# Altium integrated library Vishay Draloric Ceramic Disc Capacitor.IntLib: 519 symbols (part 2 of 8)
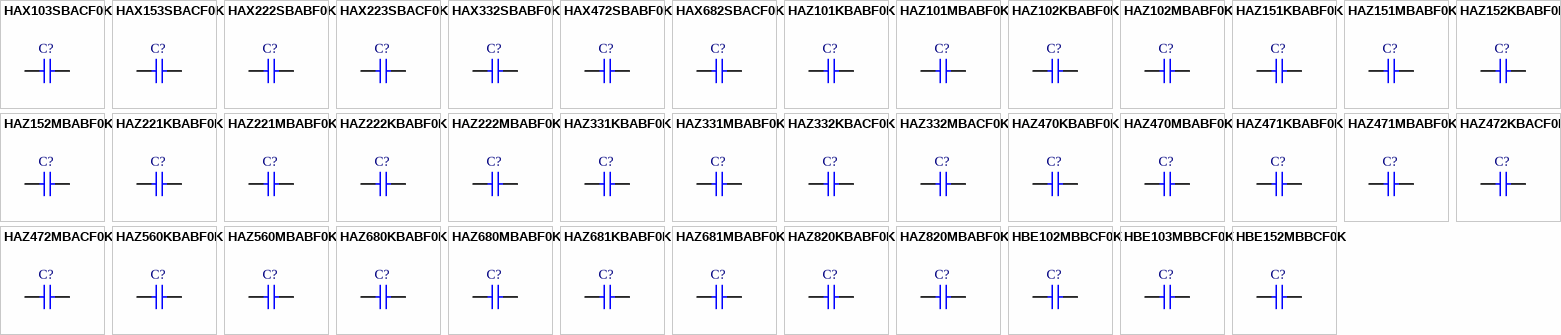
[diagram p13: symbols HAX103SBACF0K to HBE152MBBCF0K]

## HAZ681MBABF0K
designator C?
Ceramic High Voltage Disc Capacitor, Class 2: 680pF 1kV K 2000; Note: See Datasheet for other lead types & tolerances; Published: 17-Dec-2003; DatasheetDocument: 11-Dec-2001; PackageDocument: 2-Aug-2001; PackageReference: CAPRD5-7X3; Publisher: Altium Limited; ComponentLink1Description: Manufacturer Link; ComponentLink1URL: http://www.vishay.com/; ComponentLink2Description: Datasheet; ComponentLink2URL: http://www.vishay.com/docs/22161/h.pdf; Value: 680pF
footprint CAPRD5-7X3 (Capacitor, Ceramic, Thru-Hole, Disc; Body 7 x 3 mm (LxW max) Pin Spacing 5 mm (typ))
simulation model CAP (Capacitor)
signal-integrity model Cap
pins: 1, 2

## HAZ820KBABF0K
designator C?
Ceramic High Voltage Disc Capacitor, Class 2: 82pF 1kV K 2000; Note: See Datasheet for other lead types & tolerances; Published: 17-Dec-2003; DatasheetDocument: 11-Dec-2001; PackageDocument: 2-Aug-2001; PackageReference: CAPRD5-7X3; Publisher: Altium Limited; ComponentLink1Description: Manufacturer Link; ComponentLink1URL: http://www.vishay.com/; ComponentLink2Description: Datasheet; ComponentLink2URL: http://www.vishay.com/docs/22161/h.pdf; Value: 82pF
footprint CAPRD5-7X3 (Capacitor, Ceramic, Thru-Hole, Disc; Body 7 x 3 mm (LxW max) Pin Spacing 5 mm (typ))
simulation model CAP (Capacitor)
signal-integrity model Cap
pins: 1, 2

## HAZ820MBABF0K
designator C?
Ceramic High Voltage Disc Capacitor, Class 2: 82pF 1kV K 2000; Note: See Datasheet for other lead types & tolerances; Published: 17-Dec-2003; DatasheetDocument: 11-Dec-2001; PackageDocument: 2-Aug-2001; PackageReference: CAPRD5-7X3; Publisher: Altium Limited; ComponentLink1Description: Manufacturer Link; ComponentLink1URL: http://www.vishay.com/; ComponentLink2Description: Datasheet; ComponentLink2URL: http://www.vishay.com/docs/22161/h.pdf; Value: 82pF
footprint CAPRD5-7X3 (Capacitor, Ceramic, Thru-Hole, Disc; Body 7 x 3 mm (LxW max) Pin Spacing 5 mm (typ))
simulation model CAP (Capacitor)
signal-integrity model Cap
pins: 1, 2

## HBE102MBBCF0K
designator C?
Ceramic High Voltage Disc Capacitor, Class 2: 1000pF 2kV K 6000; Note: See Datasheet for other lead types; Value: 1nF; Published: 17-Dec-2003; DatasheetDocument: 11-Dec-2001; PackageDocument: 2-Aug-2001; PackageReference: CAPRD7.5-7X3; Publisher: Altium Limited; ComponentLink1Description: Manufacturer Link; ComponentLink1URL: http://www.vishay.com/; ComponentLink2Description: Datasheet; ComponentLink2URL: http://www.vishay.com/docs/22161/h.pdf
footprint CAPRD7.5-7X3 (Capacitor, Ceramic, Thru-Hole, Disc; Body 7 x 3 mm (LxW max) Pin Spacing 7.5 mm (typ))
simulation model CAP (Capacitor)
signal-integrity model Cap
pins: 1, 2

## HBE103MBBCF0K
designator C?
Ceramic High Voltage Disc Capacitor, Class 2: 10nF 2kV K 6000; Note: See Datasheet for other lead types; Published: 17-Dec-2003; DatasheetDocument: 11-Dec-2001; PackageDocument: 2-Aug-2001; PackageReference: CAPRD7.5-17X3A; Publisher: Altium Limited; ComponentLink1Description: Manufacturer Link; ComponentLink1URL: http://www.vishay.com/; ComponentLink2Description: Datasheet; ComponentLink2URL: http://www.vishay.com/docs/22161/h.pdf; Value: 10nF
footprint CAPRD7.5-17X3A (Capacitor, Ceramic, Thru-Hole, Disc; Body 17 x 3 mm (LxW max) Pin Spacing 7.5 mm (typ))
simulation model CAP (Capacitor)
signal-integrity model Cap
pins: 1, 2

## HBE152MBBCF0K
designator C?
Ceramic High Voltage Disc Capacitor, Class 2: 1500pF 2kV K 6000; Note: See Datasheet for other lead types; Value: 1.5nF; Published: 17-Dec-2003; DatasheetDocument: 11-Dec-2001; PackageDocument: 2-Aug-2001; PackageReference: CAPRD7.5-9X3; Publisher: Altium Limited; ComponentLink1Description: Manufacturer Link; ComponentLink1URL: http://www.vishay.com/; ComponentLink2Description: Datasheet; ComponentLink2URL: http://www.vishay.com/docs/22161/h.pdf
footprint CAPRD7.5-9X3 (Capacitor, Ceramic, Thru-Hole, Disc; Body 9 x 3 mm (LxW max) Pin Spacing 7.5 mm (typ))
simulation model CAP (Capacitor)
signal-integrity model Cap
pins: 1, 2

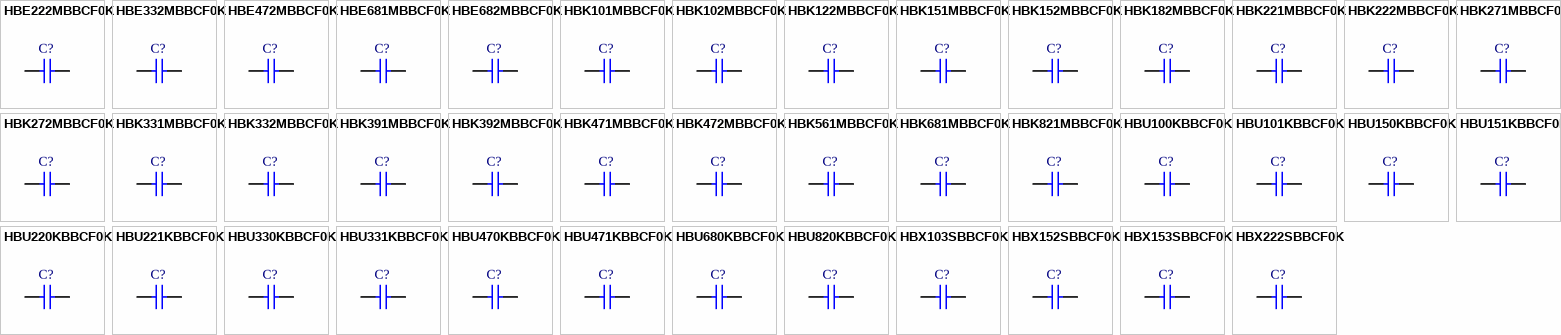
[diagram p2: symbols HBE222MBBCF0K to HBX222SBBCF0K]

## HBE222MBBCF0K
designator C?
Ceramic High Voltage Disc Capacitor, Class 2: 2200pF 2kV K 6000; Note: See Datasheet for other lead types; Value: 2.2nF; Published: 17-Dec-2003; DatasheetDocument: 11-Dec-2001; PackageDocument: 2-Aug-2001; PackageReference: CAPRD7.5-9X3; Publisher: Altium Limited; ComponentLink1Description: Manufacturer Link; ComponentLink1URL: http://www.vishay.com/; ComponentLink2Description: Datasheet; ComponentLink2URL: http://www.vishay.com/docs/22161/h.pdf
footprint CAPRD7.5-9X3 (Capacitor, Ceramic, Thru-Hole, Disc; Body 9 x 3 mm (LxW max) Pin Spacing 7.5 mm (typ))
simulation model CAP (Capacitor)
signal-integrity model Cap
pins: 1, 2

## HBE332MBBCF0K
designator C?
Ceramic High Voltage Disc Capacitor, Class 2: 3300pF 2kV K 6000; Note: See Datasheet for other lead types; Value: 3.3nF; Published: 17-Dec-2003; DatasheetDocument: 11-Dec-2001; PackageDocument: 2-Aug-2001; PackageReference: CAPRD7.5-11X3; Publisher: Altium Limited; ComponentLink1Description: Manufacturer Link; ComponentLink1URL: http://www.vishay.com/; ComponentLink2Description: Datasheet; ComponentLink2URL: http://www.vishay.com/docs/22161/h.pdf
footprint CAPRD7.5-11X3 (Capacitor, Ceramic, Thru-Hole, Disc; Body 11 x 3 mm (LxW max) Pin Spacing 7.5 mm (typ))
simulation model CAP (Capacitor)
signal-integrity model Cap
pins: 1, 2

## HBE472MBBCF0K
designator C?
Ceramic High Voltage Disc Capacitor, Class 2: 4700pF 2kV K 6000; Note: See Datasheet for other lead types; Value: 4.7nF; Published: 17-Dec-2003; DatasheetDocument: 11-Dec-2001; PackageDocument: 2-Aug-2001; PackageReference: CAPRD7.5-13X3A; Publisher: Altium Limited; ComponentLink1Description: Manufacturer Link; ComponentLink1URL: http://www.vishay.com/; ComponentLink2Description: Datasheet; ComponentLink2URL: http://www.vishay.com/docs/22161/h.pdf
footprint CAPRD7.5-13X3A (Capacitor, Ceramic, Thru-Hole, Disc; Body 13 x 3 mm (LxW max) Pin Spacing 7.5 mm (typ))
simulation model CAP (Capacitor)
signal-integrity model Cap
pins: 1, 2

## HBE681MBBCF0K
designator C?
Ceramic High Voltage Disc Capacitor, Class 2: 680pF 2kV K 6000; Note: See Datasheet for other lead types; Published: 17-Dec-2003; DatasheetDocument: 11-Dec-2001; PackageDocument: 2-Aug-2001; PackageReference: CAPRD7.5-7X3; Publisher: Altium Limited; ComponentLink1Description: Manufacturer Link; ComponentLink1URL: http://www.vishay.com/; ComponentLink2Description: Datasheet; ComponentLink2URL: http://www.vishay.com/docs/22161/h.pdf; Value: 680pF
footprint CAPRD7.5-7X3 (Capacitor, Ceramic, Thru-Hole, Disc; Body 7 x 3 mm (LxW max) Pin Spacing 7.5 mm (typ))
simulation model CAP (Capacitor)
signal-integrity model Cap
pins: 1, 2

## HBE682MBBCF0K
designator C?
Ceramic High Voltage Disc Capacitor, Class 2: 6800pF 2kV K 6000; Note: See Datasheet for other lead types; Value: 6.8nF; Published: 17-Dec-2003; DatasheetDocument: 11-Dec-2001; PackageDocument: 2-Aug-2001; PackageReference: CAPRD7.5-15X3; Publisher: Altium Limited; ComponentLink1Description: Manufacturer Link; ComponentLink1URL: http://www.vishay.com/; ComponentLink2Description: Datasheet; ComponentLink2URL: http://www.vishay.com/docs/22161/h.pdf
footprint CAPRD7.5-15X3 (Capacitor, Ceramic, Thru-Hole, Disc; Body 15 x 3 mm (LxW max) Pin Spacing 7.5 mm (typ))
simulation model CAP (Capacitor)
signal-integrity model Cap
pins: 1, 2

## HBK101MBBCF0K
designator C?
Ceramic Pulse Disc Capacitor, Class 2: 100pF 2kV K 1500; Note: See Datasheet for other lead types & tolerances; Published: 17-Dec-2003; DatasheetDocument: 6-Sep-2001; PackageDocument: 2-Aug-2001; PackageReference: CAPRD7.5-7X5B; Publisher: Altium Limited; ComponentLink1Description: Manufacturer Link; ComponentLink1URL: http://www.vishay.com/; ComponentLink2Description: Datasheet; ComponentLink2URL: http://www.vishay.com/docs/22164/hk.pdf; Value: 100pF
footprint CAPRD7.5-7X5B (Capacitor, Ceramic, Thru-Hole, Disc; Body 7 x 5 mm (LxW max) Pin Spacing 7.5 mm (typ))
simulation model CAP (Capacitor)
signal-integrity model Cap
pins: 1, 2

## HBK102MBBCF0K
designator C?
Ceramic Pulse Disc Capacitor, Class 2: 1000pF 2kV K 1500; Note: See Datasheet for other lead types & tolerances; Value: 1nF; Published: 17-Dec-2003; DatasheetDocument: 6-Sep-2001; PackageDocument: 2-Aug-2001; PackageReference: CAPRD7.5-11X5A; Publisher: Altium Limited; ComponentLink1Description: Manufacturer Link; ComponentLink1URL: http://www.vishay.com/; ComponentLink2Description: Datasheet; ComponentLink2URL: http://www.vishay.com/docs/22164/hk.pdf
footprint CAPRD7.5-11X5A (Capacitor, Ceramic, Thru-Hole, Disc; Body 11 x 5 mm (LxW max) Pin Spacing 7.5 mm (typ))
simulation model CAP (Capacitor)
signal-integrity model Cap
pins: 1, 2

## HBK122MBBCF0K
designator C?
Ceramic Pulse Disc Capacitor, Class 2: 1200pF 2kV K 1500; Note: See Datasheet for other lead types & tolerances; Value: 1.2nF; Published: 17-Dec-2003; DatasheetDocument: 6-Sep-2001; PackageDocument: 2-Aug-2001; PackageReference: CAPRD7.5-11X5A; Publisher: Altium Limited; ComponentLink1Description: Manufacturer Link; ComponentLink1URL: http://www.vishay.com/; ComponentLink2Description: Datasheet; ComponentLink2URL: http://www.vishay.com/docs/22164/hk.pdf
footprint CAPRD7.5-11X5A (Capacitor, Ceramic, Thru-Hole, Disc; Body 11 x 5 mm (LxW max) Pin Spacing 7.5 mm (typ))
simulation model CAP (Capacitor)
signal-integrity model Cap
pins: 1, 2

## HBK151MBBCF0K
designator C?
Ceramic Pulse Disc Capacitor, Class 2: 150pF 2kV K 1500; Note: See Datasheet for other lead types & tolerances; Published: 17-Dec-2003; DatasheetDocument: 6-Sep-2001; PackageDocument: 2-Aug-2001; PackageReference: CAPRD7.5-7X5B; Publisher: Altium Limited; ComponentLink1Description: Manufacturer Link; ComponentLink1URL: http://www.vishay.com/; ComponentLink2Description: Datasheet; ComponentLink2URL: http://www.vishay.com/docs/22164/hk.pdf; Value: 150pF
footprint CAPRD7.5-7X5B (Capacitor, Ceramic, Thru-Hole, Disc; Body 7 x 5 mm (LxW max) Pin Spacing 7.5 mm (typ))
simulation model CAP (Capacitor)
signal-integrity model Cap
pins: 1, 2

## HBK152MBBCF0K
designator C?
Ceramic Pulse Disc Capacitor, Class 2: 1500pF 2kV K 1500; Note: See Datasheet for other lead types & tolerances; Value: 1.5nF; Published: 17-Dec-2003; DatasheetDocument: 6-Sep-2001; PackageDocument: 2-Aug-2001; PackageReference: CAPRD7.5-12.5X5; Publisher: Altium Limited; ComponentLink1Description: Manufacturer Link; ComponentLink1URL: http://www.vishay.com/; ComponentLink2Description: Datasheet; ComponentLink2URL: http://www.vishay.com/docs/22164/hk.pdf
footprint CAPRD7.5-12.5X5 (Capacitor, Ceramic, Thru-Hole, Disc; Body 12.5 x 5 mm (LxW max) Pin Spacing 7.5 mm (typ))
simulation model CAP (Capacitor)
signal-integrity model Cap
pins: 1, 2

## HBK182MBBCF0K
designator C?
Ceramic Pulse Disc Capacitor, Class 2: 1800pF 2kV K 1500; Note: See Datasheet for other lead types & tolerances; Value: 1.8nF; Published: 17-Dec-2003; DatasheetDocument: 6-Sep-2001; PackageDocument: 2-Aug-2001; PackageReference: CAPRD7.5-14.5X5B; Publisher: Altium Limited; ComponentLink1Description: Manufacturer Link; ComponentLink1URL: http://www.vishay.com/; ComponentLink2Description: Datasheet; ComponentLink2URL: http://www.vishay.com/docs/22164/hk.pdf
footprint CAPRD7.5-14.5X5B (Capacitor, Ceramic, Thru-Hole, Disc; Body 14.5 x 5 mm (LxW max) Pin Spacing 7.5 mm (typ))
simulation model CAP (Capacitor)
signal-integrity model Cap
pins: 1, 2

## HBK221MBBCF0K
designator C?
Ceramic Pulse Disc Capacitor, Class 2: 220pF 2kV K 1500; Note: See Datasheet for other lead types & tolerances; Published: 17-Dec-2003; DatasheetDocument: 6-Sep-2001; PackageDocument: 2-Aug-2001; PackageReference: CAPRD7.5-7X5B; Publisher: Altium Limited; ComponentLink1Description: Manufacturer Link; ComponentLink1URL: http://www.vishay.com/; ComponentLink2Description: Datasheet; ComponentLink2URL: http://www.vishay.com/docs/22164/hk.pdf; Value: 220pF
footprint CAPRD7.5-7X5B (Capacitor, Ceramic, Thru-Hole, Disc; Body 7 x 5 mm (LxW max) Pin Spacing 7.5 mm (typ))
simulation model CAP (Capacitor)
signal-integrity model Cap
pins: 1, 2

## HBK222MBBCF0K
designator C?
Ceramic Pulse Disc Capacitor, Class 2: 2200pF 2kV K 1500; Note: See Datasheet for other lead types & tolerances; Value: 2.2nF; Published: 17-Dec-2003; DatasheetDocument: 6-Sep-2001; PackageDocument: 2-Aug-2001; PackageReference: CAPRD7.5-14.5X5B; Publisher: Altium Limited; ComponentLink1Description: Manufacturer Link; ComponentLink1URL: http://www.vishay.com/; ComponentLink2Description: Datasheet; ComponentLink2URL: http://www.vishay.com/docs/22164/hk.pdf
footprint CAPRD7.5-14.5X5B (Capacitor, Ceramic, Thru-Hole, Disc; Body 14.5 x 5 mm (LxW max) Pin Spacing 7.5 mm (typ))
simulation model CAP (Capacitor)
signal-integrity model Cap
pins: 1, 2

## HBK271MBBCF0K
designator C?
Ceramic Pulse Disc Capacitor, Class 2: 270pF 2kV K 1500; Note: See Datasheet for other lead types & tolerances; Published: 17-Dec-2003; DatasheetDocument: 6-Sep-2001; PackageDocument: 2-Aug-2001; PackageReference: CAPRD7.5-7X5B; Publisher: Altium Limited; ComponentLink1Description: Manufacturer Link; ComponentLink1URL: http://www.vishay.com/; ComponentLink2Description: Datasheet; ComponentLink2URL: http://www.vishay.com/docs/22164/hk.pdf; Value: 270pF
footprint CAPRD7.5-7X5B (Capacitor, Ceramic, Thru-Hole, Disc; Body 7 x 5 mm (LxW max) Pin Spacing 7.5 mm (typ))
simulation model CAP (Capacitor)
signal-integrity model Cap
pins: 1, 2

## HBK272MBBCF0K
designator C?
Ceramic Pulse Disc Capacitor, Class 2: 2700pF 2kV K 1500; Note: See Datasheet for other lead types & tolerances; Value: 2.7nF; Published: 17-Dec-2003; DatasheetDocument: 6-Sep-2001; PackageDocument: 2-Aug-2001; PackageReference: CAPRD7.5-16.5X5A; Publisher: Altium Limited; ComponentLink1Description: Manufacturer Link; ComponentLink1URL: http://www.vishay.com/; ComponentLink2Description: Datasheet; ComponentLink2URL: http://www.vishay.com/docs/22164/hk.pdf
footprint CAPRD7.5-16.5X5A (Capacitor, Ceramic, Thru-Hole, Disc; Body 16.5 x 5 mm (LxW max) Pin Spacing 7.5 mm (typ))
simulation model CAP (Capacitor)
signal-integrity model Cap
pins: 1, 2

## HBK331MBBCF0K
designator C?
Ceramic Pulse Disc Capacitor, Class 2: 330pF 2kV K 1500; Note: See Datasheet for other lead types & tolerances; Published: 17-Dec-2003; DatasheetDocument: 6-Sep-2001; PackageDocument: 2-Aug-2001; PackageReference: CAPRD7.5-7X5B; Publisher: Altium Limited; ComponentLink1Description: Manufacturer Link; ComponentLink1URL: http://www.vishay.com/; ComponentLink2Description: Datasheet; ComponentLink2URL: http://www.vishay.com/docs/22164/hk.pdf; Value: 330pF
footprint CAPRD7.5-7X5B (Capacitor, Ceramic, Thru-Hole, Disc; Body 7 x 5 mm (LxW max) Pin Spacing 7.5 mm (typ))
simulation model CAP (Capacitor)
signal-integrity model Cap
pins: 1, 2

## HBK332MBBCF0K
designator C?
Ceramic Pulse Disc Capacitor, Class 2: 3300pF 2kV K 1500; Note: See Datasheet for other lead types & tolerances; Value: 3.3nF; Published: 17-Dec-2003; DatasheetDocument: 6-Sep-2001; PackageDocument: 2-Aug-2001; PackageReference: CAPRD7.5-17.5X5; Publisher: Altium Limited; ComponentLink1Description: Manufacturer Link; ComponentLink1URL: http://www.vishay.com/; ComponentLink2Description: Datasheet; ComponentLink2URL: http://www.vishay.com/docs/22164/hk.pdf
footprint CAPRD7.5-17.5X5 (Capacitor, Ceramic, Thru-Hole, Disc; Body 17.5 x 5 mm (LxW max) Pin Spacing 7.5 mm (typ))
simulation model CAP (Capacitor)
signal-integrity model Cap
pins: 1, 2

## HBK391MBBCF0K
designator C?
Ceramic Pulse Disc Capacitor, Class 2: 390pF 2kV K 1500; Note: See Datasheet for other lead types & tolerances; Published: 17-Dec-2003; DatasheetDocument: 6-Sep-2001; PackageDocument: 2-Aug-2001; PackageReference: CAPRD7.5-8X5A; Publisher: Altium Limited; ComponentLink1Description: Manufacturer Link; ComponentLink1URL: http://www.vishay.com/; ComponentLink2Description: Datasheet; ComponentLink2URL: http://www.vishay.com/docs/22164/hk.pdf; Value: 390pF
footprint CAPRD7.5-8X5A (Capacitor, Ceramic, Thru-Hole, Disc; Body 8 x 5 mm (LxW max) Pin Spacing 7.5 mm (typ))
simulation model CAP (Capacitor)
signal-integrity model Cap
pins: 1, 2

## HBK392MBBCF0K
designator C?
Ceramic Pulse Disc Capacitor, Class 2: 3900pF 2kV K 1500; Note: See Datasheet for other lead types & tolerances; Value: 3.9nF; Published: 17-Dec-2003; DatasheetDocument: 6-Sep-2001; PackageDocument: 2-Aug-2001; PackageReference: CAPRD7.5-19.5X5; Publisher: Altium Limited; ComponentLink1Description: Manufacturer Link; ComponentLink1URL: http://www.vishay.com/; ComponentLink2Description: Datasheet; ComponentLink2URL: http://www.vishay.com/docs/22164/hk.pdf
footprint CAPRD7.5-19.5X5 (Capacitor, Ceramic, Thru-Hole, Disc; Body 19.5 x 5 mm (LxW max) Pin Spacing 7.5 mm (typ))
simulation model CAP (Capacitor)
signal-integrity model Cap
pins: 1, 2

## HBK471MBBCF0K
designator C?
Ceramic Pulse Disc Capacitor, Class 2: 470pF 2kV K 1500; Note: See Datasheet for other lead types & tolerances; Published: 17-Dec-2003; DatasheetDocument: 6-Sep-2001; PackageDocument: 2-Aug-2001; PackageReference: CAPRD7.5-8X5A; Publisher: Altium Limited; ComponentLink1Description: Manufacturer Link; ComponentLink1URL: http://www.vishay.com/; ComponentLink2Description: Datasheet; ComponentLink2URL: http://www.vishay.com/docs/22164/hk.pdf; Value: 470pF
footprint CAPRD7.5-8X5A (Capacitor, Ceramic, Thru-Hole, Disc; Body 8 x 5 mm (LxW max) Pin Spacing 7.5 mm (typ))
simulation model CAP (Capacitor)
signal-integrity model Cap
pins: 1, 2

## HBK472MBBCF0K
designator C?
Ceramic Pulse Disc Capacitor, Class 2: 4700pF 2kV K 1500; Note: See Datasheet for other lead types & tolerances; Value: 4.7nF; Published: 17-Dec-2003; DatasheetDocument: 6-Sep-2001; PackageDocument: 2-Aug-2001; PackageReference: CAPRD7.5-25X5; Publisher: Altium Limited; ComponentLink1Description: Manufacturer Link; ComponentLink1URL: http://www.vishay.com/; ComponentLink2Description: Datasheet; ComponentLink2URL: http://www.vishay.com/docs/22164/hk.pdf
footprint CAPRD7.5-25X5 (Capacitor, Ceramic, Thru-Hole, Disc; Body 25 x 5 mm (LxW max) Pin Spacing 7.5 mm (typ))
simulation model CAP (Capacitor)
signal-integrity model Cap
pins: 1, 2

## HBK561MBBCF0K
designator C?
Ceramic Pulse Disc Capacitor, Class 2: 560pF 2kV K 1500; Note: See Datasheet for other lead types & tolerances; Published: 17-Dec-2003; DatasheetDocument: 6-Sep-2001; PackageDocument: 2-Aug-2001; PackageReference: CAPRD7.5-9X5D; Publisher: Altium Limited; ComponentLink1Description: Manufacturer Link; ComponentLink1URL: http://www.vishay.com/; ComponentLink2Description: Datasheet; ComponentLink2URL: http://www.vishay.com/docs/22164/hk.pdf; Value: 560pF
footprint CAPRD7.5-9X5D (Capacitor, Ceramic, Thru-Hole, Disc; Body 9 x 5 mm (LxW max) Pin Spacing 7.5 mm (typ))
simulation model CAP (Capacitor)
signal-integrity model Cap
pins: 1, 2

## HBK681MBBCF0K
designator C?
Ceramic Pulse Disc Capacitor, Class 2: 680pF 2kV K 1500; Note: See Datasheet for other lead types & tolerances; Published: 17-Dec-2003; DatasheetDocument: 6-Sep-2001; PackageDocument: 2-Aug-2001; PackageReference: CAPRD7.5-9X5D; Publisher: Altium Limited; ComponentLink1Description: Manufacturer Link; ComponentLink1URL: http://www.vishay.com/; ComponentLink2Description: Datasheet; ComponentLink2URL: http://www.vishay.com/docs/22164/hk.pdf; Value: 680pF
footprint CAPRD7.5-9X5D (Capacitor, Ceramic, Thru-Hole, Disc; Body 9 x 5 mm (LxW max) Pin Spacing 7.5 mm (typ))
simulation model CAP (Capacitor)
signal-integrity model Cap
pins: 1, 2

## HBK821MBBCF0K
designator C?
Ceramic Pulse Disc Capacitor, Class 2: 820pF 2kV K 1500; Note: See Datasheet for other lead types & tolerances; Published: 17-Dec-2003; DatasheetDocument: 6-Sep-2001; PackageDocument: 2-Aug-2001; PackageReference: CAPRD7.5-10X5A; Publisher: Altium Limited; ComponentLink1Description: Manufacturer Link; ComponentLink1URL: http://www.vishay.com/; ComponentLink2Description: Datasheet; ComponentLink2URL: http://www.vishay.com/docs/22164/hk.pdf; Value: 820pF
footprint CAPRD7.5-10X5A (Capacitor, Ceramic, Thru-Hole, Disc; Body 10 x 5 mm (LxW max) Pin Spacing 7.5 mm (typ))
simulation model CAP (Capacitor)
signal-integrity model Cap
pins: 1, 2

## HBU100KBBCF0K
designator C?
Ceramic High Voltage Disc Capacitor, Class 1: 10pF, 2kV, N 750; Note: See Datasheet for other lead types; Published: 17-Dec-2003; DatasheetDocument: 2-Aug-2001; PackageDocument: 2-Aug-2001; PackageReference: CAPRD7.5-7X4; Publisher: Altium Limited; ComponentLink1Description: Manufacturer Link; ComponentLink1URL: http://www.vishay.com/; ComponentLink2Description: Datasheet; ComponentLink2URL: http://www.vishay.com/docs/22114/hu.pdf; Value: 10pF
footprint CAPRD7.5-7X4 (Capacitor, Ceramic, Thru-Hole, Disc; Body 7 x 4 mm (LxW max) Pin Spacing 7.5 mm (typ))
simulation model CAP (Capacitor)
signal-integrity model Cap
pins: 1, 2

## HBU101KBBCF0K
designator C?
Ceramic High Voltage Disc Capacitor, Class 1: 100pF, 2kV, N 750; Note: See Datasheet for other lead types; Published: 17-Dec-2003; DatasheetDocument: 2-Aug-2001; PackageDocument: 2-Aug-2001; PackageReference: CAPRD7.5-10X4.2; Publisher: Altium Limited; ComponentLink1Description: Manufacturer Link; ComponentLink1URL: http://www.vishay.com/; ComponentLink2Description: Datasheet; ComponentLink2URL: http://www.vishay.com/docs/22114/hu.pdf; Value: 100pF
footprint CAPRD7.5-10X4.2 (Capacitor, Ceramic, Thru-Hole, Disc; Body 10 x 4.2 mm (LxW max) Pin Spacing 7.5 mm (typ))
simulation model CAP (Capacitor)
signal-integrity model Cap
pins: 1, 2

## HBU150KBBCF0K
designator C?
Ceramic High Voltage Disc Capacitor, Class 1: 15pF, 2kV, N 750; Note: See Datasheet for other lead types; Published: 17-Dec-2003; DatasheetDocument: 2-Aug-2001; PackageDocument: 2-Aug-2001; PackageReference: CAPRD7.5-7X4; Publisher: Altium Limited; ComponentLink1Description: Manufacturer Link; ComponentLink1URL: http://www.vishay.com/; ComponentLink2Description: Datasheet; ComponentLink2URL: http://www.vishay.com/docs/22114/hu.pdf; Value: 15pF
footprint CAPRD7.5-7X4 (Capacitor, Ceramic, Thru-Hole, Disc; Body 7 x 4 mm (LxW max) Pin Spacing 7.5 mm (typ))
simulation model CAP (Capacitor)
signal-integrity model Cap
pins: 1, 2

## HBU151KBBCF0K
designator C?
Ceramic High Voltage Disc Capacitor, Class 1: 150pF, 2kV, N 750; Note: See Datasheet for other lead types; Published: 17-Dec-2003; DatasheetDocument: 2-Aug-2001; PackageDocument: 2-Aug-2001; PackageReference: CAPRD7.5-10X4.2; Publisher: Altium Limited; ComponentLink1Description: Manufacturer Link; ComponentLink1URL: http://www.vishay.com/; ComponentLink2Description: Datasheet; ComponentLink2URL: http://www.vishay.com/docs/22114/hu.pdf; Value: 150pF
footprint CAPRD7.5-10X4.2 (Capacitor, Ceramic, Thru-Hole, Disc; Body 10 x 4.2 mm (LxW max) Pin Spacing 7.5 mm (typ))
simulation model CAP (Capacitor)
signal-integrity model Cap
pins: 1, 2

## HBU220KBBCF0K
designator C?
Ceramic High Voltage Disc Capacitor, Class 1: 22pF, 2kV, N 750; Note: See Datasheet for other lead types; Published: 17-Dec-2003; DatasheetDocument: 2-Aug-2001; PackageDocument: 2-Aug-2001; PackageReference: CAPRD7.5-7X4; Publisher: Altium Limited; ComponentLink1Description: Manufacturer Link; ComponentLink1URL: http://www.vishay.com/; ComponentLink2Description: Datasheet; ComponentLink2URL: http://www.vishay.com/docs/22114/hu.pdf; Value: 22pF
footprint CAPRD7.5-7X4 (Capacitor, Ceramic, Thru-Hole, Disc; Body 7 x 4 mm (LxW max) Pin Spacing 7.5 mm (typ))
simulation model CAP (Capacitor)
signal-integrity model Cap
pins: 1, 2

## HBU221KBBCF0K
designator C?
Ceramic High Voltage Disc Capacitor, Class 1: 220pF, 2kV, N 750; Note: See Datasheet for other lead types; Published: 17-Dec-2003; DatasheetDocument: 2-Aug-2001; PackageDocument: 2-Aug-2001; PackageReference: CAPRD7.5-12X4.2; Publisher: Altium Limited; ComponentLink1Description: Manufacturer Link; ComponentLink1URL: http://www.vishay.com/; ComponentLink2Description: Datasheet; ComponentLink2URL: http://www.vishay.com/docs/22114/hu.pdf; Value: 220pF
footprint CAPRD7.5-12X4.2 (Capacitor, Ceramic, Thru-Hole, Disc; Body 12 x 4.2 mm (LxW max) Pin Spacing 7.5 mm (typ))
simulation model CAP (Capacitor)
signal-integrity model Cap
pins: 1, 2

## HBU330KBBCF0K
designator C?
Ceramic High Voltage Disc Capacitor, Class 1: 33pF, 2kV, N 750; Note: See Datasheet for other lead types; Published: 17-Dec-2003; DatasheetDocument: 2-Aug-2001; PackageDocument: 2-Aug-2001; PackageReference: CAPRD7.5-7X4A; Publisher: Altium Limited; ComponentLink1Description: Manufacturer Link; ComponentLink1URL: http://www.vishay.com/; ComponentLink2Description: Datasheet; ComponentLink2URL: http://www.vishay.com/docs/22114/hu.pdf; Value: 33pF
footprint CAPRD7.5-7X4A (Capacitor, Ceramic, Thru-Hole, Disc; Body 7 x 4 mm (LxW max) Pin Spacing 7.5 mm (typ))
simulation model CAP (Capacitor)
signal-integrity model Cap
pins: 1, 2

## HBU331KBBCF0K
designator C?
Ceramic High Voltage Disc Capacitor, Class 1: 330pF, 2kV, N 750; Note: See Datasheet for other lead types; Published: 17-Dec-2003; DatasheetDocument: 2-Aug-2001; PackageDocument: 2-Aug-2001; PackageReference: CAPRD7.5-15X4.2; Publisher: Altium Limited; ComponentLink1Description: Manufacturer Link; ComponentLink1URL: http://www.vishay.com/; ComponentLink2Description: Datasheet; ComponentLink2URL: http://www.vishay.com/docs/22114/hu.pdf; Value: 330pF
footprint CAPRD7.5-15X4.2 (Capacitor, Ceramic, Thru-Hole, Disc; Body 15 x 4.2 mm (LxW max) Pin Spacing 7.5 mm (typ))
simulation model CAP (Capacitor)
signal-integrity model Cap
pins: 1, 2

## HBU470KBBCF0K
designator C?
Ceramic High Voltage Disc Capacitor, Class 1: 47pF, 2kV, N 750; Note: See Datasheet for other lead types; Published: 17-Dec-2003; DatasheetDocument: 2-Aug-2001; PackageDocument: 2-Aug-2001; PackageReference: CAPRD7.5-7X4B; Publisher: Altium Limited; ComponentLink1Description: Manufacturer Link; ComponentLink1URL: http://www.vishay.com/; ComponentLink2Description: Datasheet; ComponentLink2URL: http://www.vishay.com/docs/22114/hu.pdf; Value: 47pF
footprint CAPRD7.5-7X4B (Capacitor, Ceramic, Thru-Hole, Disc; Body 7 x 4 mm (LxW max) Pin Spacing 7.5 mm (typ))
simulation model CAP (Capacitor)
signal-integrity model Cap
pins: 1, 2

## HBU471KBBCF0K
designator C?
Ceramic High Voltage Disc Capacitor, Class 1: 470pF, 2kV, N 750; Note: See Datasheet for other lead types; Published: 17-Dec-2003; DatasheetDocument: 2-Aug-2001; PackageDocument: 2-Aug-2001; PackageReference: CAPRD7.5-17X4.2; Publisher: Altium Limited; ComponentLink1Description: Manufacturer Link; ComponentLink1URL: http://www.vishay.com/; ComponentLink2Description: Datasheet; ComponentLink2URL: http://www.vishay.com/docs/22114/hu.pdf; Value: 470pF
footprint CAPRD7.5-17X4.2 (Capacitor, Ceramic, Thru-Hole, Disc; Body 17 x 4.2 mm (LxW max) Pin Spacing 7.5 mm (typ))
simulation model CAP (Capacitor)
signal-integrity model Cap
pins: 1, 2

## HBU680KBBCF0K
designator C?
Ceramic High Voltage Disc Capacitor, Class 1: 68pF, 2kV, N 750; Note: See Datasheet for other lead types; Published: 17-Dec-2003; DatasheetDocument: 2-Aug-2001; PackageDocument: 2-Aug-2001; PackageReference: CAPRD7.5-8X4; Publisher: Altium Limited; ComponentLink1Description: Manufacturer Link; ComponentLink1URL: http://www.vishay.com/; ComponentLink2Description: Datasheet; ComponentLink2URL: http://www.vishay.com/docs/22114/hu.pdf; Value: 68pF
footprint CAPRD7.5-8X4 (Capacitor, Ceramic, Thru-Hole, Disc; Body 8 x 4 mm (LxW max) Pin Spacing 7.5 mm (typ))
simulation model CAP (Capacitor)
signal-integrity model Cap
pins: 1, 2

## HBU820KBBCF0K
designator C?
Ceramic High Voltage Disc Capacitor, Class 1: 82pF, 2kV, N 750; Note: See Datasheet for other lead types; Published: 17-Dec-2003; DatasheetDocument: 2-Aug-2001; PackageDocument: 2-Aug-2001; PackageReference: CAPRD7.5-8X4.2; Publisher: Altium Limited; ComponentLink1Description: Manufacturer Link; ComponentLink1URL: http://www.vishay.com/; ComponentLink2Description: Datasheet; ComponentLink2URL: http://www.vishay.com/docs/22114/hu.pdf; Value: 82pF
footprint CAPRD7.5-8X4.2 (Capacitor, Ceramic, Thru-Hole, Disc; Body 8 x 4.2 mm (LxW max) Pin Spacing 7.5 mm (typ))
simulation model CAP (Capacitor)
signal-integrity model Cap
pins: 1, 2

## HBX103SBBCF0K
designator C?
Ceramic High Voltage Disc Capacitor, Class 2: 10nF 2kV K 10000; Note: See Datasheet for other lead types & tolerances; Published: 17-Dec-2003; DatasheetDocument: 11-Dec-2001; PackageDocument: 2-Aug-2001; PackageReference: CAPRD7.5-15X3A; Publisher: Altium Limited; ComponentLink1Description: Manufacturer Link; ComponentLink1URL: http://www.vishay.com/; ComponentLink2Description: Datasheet; ComponentLink2URL: http://www.vishay.com/docs/22161/h.pdf; Value: 10nF
footprint CAPRD7.5-15X3A (Capacitor, Ceramic, Thru-Hole, Disc; Body 15 x 3 mm (LxW max) Pin Spacing 7.5 mm (typ))
simulation model CAP (Capacitor)
signal-integrity model Cap
pins: 1, 2

## HBX152SBBCF0K
designator C?
Ceramic High Voltage Disc Capacitor, Class 2: 1500pF 2kV K 10000; Note: See Datasheet for other lead types & tolerances; Value: 1.5nF; Published: 17-Dec-2003; DatasheetDocument: 11-Dec-2001; PackageDocument: 2-Aug-2001; PackageReference: CAPRD7.5-7X3A; Publisher: Altium Limited; ComponentLink1Description: Manufacturer Link; ComponentLink1URL: http://www.vishay.com/; ComponentLink2Description: Datasheet; ComponentLink2URL: http://www.vishay.com/docs/22161/h.pdf
footprint CAPRD7.5-7X3A (Capacitor, Ceramic, Thru-Hole, Disc; Body 7 x 3 mm (LxW max) Pin Spacing 7.5 mm (typ))
simulation model CAP (Capacitor)
signal-integrity model Cap
pins: 1, 2

## HBX153SBBCF0K
designator C?
Ceramic High Voltage Disc Capacitor, Class 2: 15nF 2kV K 10000; Note: See Datasheet for other lead types & tolerances; Published: 17-Dec-2003; DatasheetDocument: 11-Dec-2001; PackageDocument: 2-Aug-2001; PackageReference: CAPRD7.5-17X3; Publisher: Altium Limited; ComponentLink1Description: Manufacturer Link; ComponentLink1URL: http://www.vishay.com/; ComponentLink2Description: Datasheet; ComponentLink2URL: http://www.vishay.com/docs/22161/h.pdf; Value: 15nF
footprint CAPRD7.5-17X3 (Capacitor, Ceramic, Thru-Hole, Disc; Body 17 x 3 mm (LxW max) Pin Spacing 7.5 mm (typ))
simulation model CAP (Capacitor)
signal-integrity model Cap
pins: 1, 2

## HBX222SBBCF0K
designator C?
Ceramic High Voltage Disc Capacitor, Class 2: 2200pF 2kV K 10000; Note: See Datasheet for other lead types & tolerances; Value: 2.2nF; Published: 17-Dec-2003; DatasheetDocument: 11-Dec-2001; PackageDocument: 2-Aug-2001; PackageReference: CAPRD7.5-9X3A; Publisher: Altium Limited; ComponentLink1Description: Manufacturer Link; ComponentLink1URL: http://www.vishay.com/; ComponentLink2Description: Datasheet; ComponentLink2URL: http://www.vishay.com/docs/22161/h.pdf
footprint CAPRD7.5-9X3A (Capacitor, Ceramic, Thru-Hole, Disc; Body 9 x 3 mm (LxW max) Pin Spacing 7.5 mm (typ))
simulation model CAP (Capacitor)
signal-integrity model Cap
pins: 1, 2

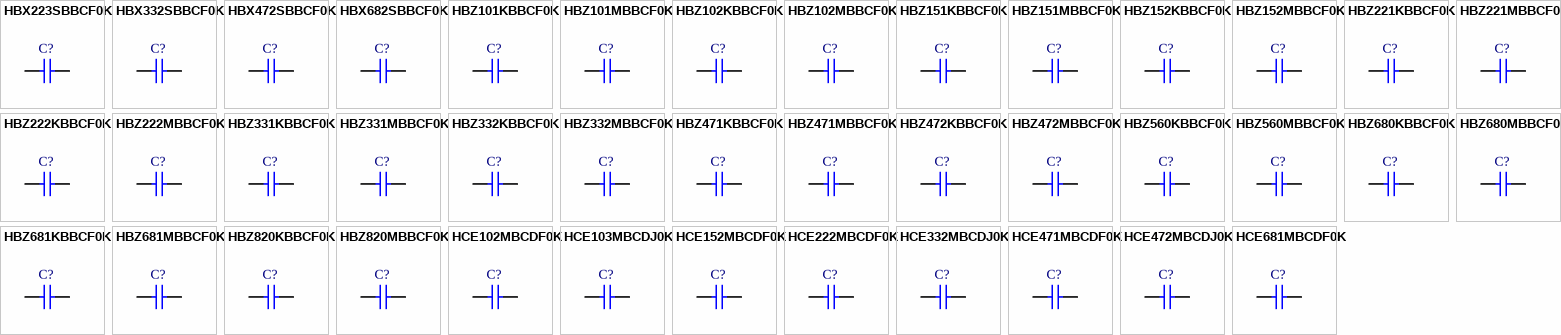
[diagram p3: symbols HBX223SBBCF0K to HCE681MBCDF0K]

## HBX223SBBCF0K
designator C?
Ceramic High Voltage Disc Capacitor, Class 2: 22nF 2kV K 10000; Note: See Datasheet for other lead types & tolerances; Published: 17-Dec-2003; DatasheetDocument: 11-Dec-2001; PackageDocument: 2-Aug-2001; PackageReference: CAPRD7.5-20X3A; Publisher: Altium Limited; ComponentLink1Description: Manufacturer Link; ComponentLink1URL: http://www.vishay.com/; ComponentLink2Description: Datasheet; ComponentLink2URL: http://www.vishay.com/docs/22161/h.pdf; Value: 22nF
footprint CAPRD7.5-20X3A (Capacitor, Ceramic, Thru-Hole, Disc; Body 20 x 3 mm (LxW max) Pin Spacing 7.5 mm (typ))
simulation model CAP (Capacitor)
signal-integrity model Cap
pins: 1, 2

## HBX332SBBCF0K
designator C?
Ceramic High Voltage Disc Capacitor, Class 2: 3300pF 2kV K 10000; Note: See Datasheet for other lead types & tolerances; Value: 3.3nF; Published: 17-Dec-2003; DatasheetDocument: 11-Dec-2001; PackageDocument: 2-Aug-2001; PackageReference: CAPRD7.5-9X3A; Publisher: Altium Limited; ComponentLink1Description: Manufacturer Link; ComponentLink1URL: http://www.vishay.com/; ComponentLink2Description: Datasheet; ComponentLink2URL: http://www.vishay.com/docs/22161/h.pdf
footprint CAPRD7.5-9X3A (Capacitor, Ceramic, Thru-Hole, Disc; Body 9 x 3 mm (LxW max) Pin Spacing 7.5 mm (typ))
simulation model CAP (Capacitor)
signal-integrity model Cap
pins: 1, 2

## HBX472SBBCF0K
designator C?
Ceramic High Voltage Disc Capacitor, Class 2: 4700pF 2kV K 10000; Note: See Datasheet for other lead types & tolerances; Value: 4.7nF; Published: 17-Dec-2003; DatasheetDocument: 11-Dec-2001; PackageDocument: 2-Aug-2001; PackageReference: CAPRD7.5-11X3A; Publisher: Altium Limited; ComponentLink1Description: Manufacturer Link; ComponentLink1URL: http://www.vishay.com/; ComponentLink2Description: Datasheet; ComponentLink2URL: http://www.vishay.com/docs/22161/h.pdf
footprint CAPRD7.5-11X3A (Capacitor, Ceramic, Thru-Hole, Disc; Body 11 x 3 mm (LxW max) Pin Spacing 7.5 mm (typ))
simulation model CAP (Capacitor)
signal-integrity model Cap
pins: 1, 2

## HBX682SBBCF0K
designator C?
Ceramic High Voltage Disc Capacitor, Class 2: 6800pF 2kV K 10000; Note: See Datasheet for other lead types & tolerances; Value: 6.8nF; Published: 17-Dec-2003; DatasheetDocument: 11-Dec-2001; PackageDocument: 2-Aug-2001; PackageReference: CAPRD7.5-11X3A; Publisher: Altium Limited; ComponentLink1Description: Manufacturer Link; ComponentLink1URL: http://www.vishay.com/; ComponentLink2Description: Datasheet; ComponentLink2URL: http://www.vishay.com/docs/22161/h.pdf
footprint CAPRD7.5-11X3A (Capacitor, Ceramic, Thru-Hole, Disc; Body 11 x 3 mm (LxW max) Pin Spacing 7.5 mm (typ))
simulation model CAP (Capacitor)
signal-integrity model Cap
pins: 1, 2

## HBZ101KBBCF0K
designator C?
Ceramic High Voltage Disc Capacitor, Class 2: 100pF 2kV K 2000; Note: See Datasheet for other lead types & tolerances; Published: 17-Dec-2003; DatasheetDocument: 11-Dec-2001; PackageDocument: 2-Aug-2001; PackageReference: CAPRD7.5-7X3; Publisher: Altium Limited; ComponentLink1Description: Manufacturer Link; ComponentLink1URL: http://www.vishay.com/; ComponentLink2Description: Datasheet; ComponentLink2URL: http://www.vishay.com/docs/22161/h.pdf; Value: 100pF
footprint CAPRD7.5-7X3 (Capacitor, Ceramic, Thru-Hole, Disc; Body 7 x 3 mm (LxW max) Pin Spacing 7.5 mm (typ))
simulation model CAP (Capacitor)
signal-integrity model Cap
pins: 1, 2

## HBZ101MBBCF0K
designator C?
Ceramic High Voltage Disc Capacitor, Class 2: 100pF 2kV K 2000; Note: See Datasheet for other lead types & tolerances; Published: 17-Dec-2003; DatasheetDocument: 11-Dec-2001; PackageDocument: 2-Aug-2001; PackageReference: CAPRD7.5-7X3; Publisher: Altium Limited; ComponentLink1Description: Manufacturer Link; ComponentLink1URL: http://www.vishay.com/; ComponentLink2Description: Datasheet; ComponentLink2URL: http://www.vishay.com/docs/22161/h.pdf; Value: 100pF
footprint CAPRD7.5-7X3 (Capacitor, Ceramic, Thru-Hole, Disc; Body 7 x 3 mm (LxW max) Pin Spacing 7.5 mm (typ))
simulation model CAP (Capacitor)
signal-integrity model Cap
pins: 1, 2

## HBZ102KBBCF0K
designator C?
Ceramic High Voltage Disc Capacitor, Class 2: 1000pF 2kV K 2000; Note: See Datasheet for other lead types & tolerances; Value: 1nF; Published: 17-Dec-2003; DatasheetDocument: 11-Dec-2001; PackageDocument: 2-Aug-2001; PackageReference: CAPRD7.5-9X3; Publisher: Altium Limited; ComponentLink1Description: Manufacturer Link; ComponentLink1URL: http://www.vishay.com/; ComponentLink2Description: Datasheet; ComponentLink2URL: http://www.vishay.com/docs/22161/h.pdf
footprint CAPRD7.5-9X3 (Capacitor, Ceramic, Thru-Hole, Disc; Body 9 x 3 mm (LxW max) Pin Spacing 7.5 mm (typ))
simulation model CAP (Capacitor)
signal-integrity model Cap
pins: 1, 2

## HBZ102MBBCF0K
designator C?
Ceramic High Voltage Disc Capacitor, Class 2: 1000pF 2kV K 2000; Note: See Datasheet for other lead types & tolerances; Value: 1nF; Published: 17-Dec-2003; DatasheetDocument: 11-Dec-2001; PackageDocument: 2-Aug-2001; PackageReference: CAPRD7.5-9X3; Publisher: Altium Limited; ComponentLink1Description: Manufacturer Link; ComponentLink1URL: http://www.vishay.com/; ComponentLink2Description: Datasheet; ComponentLink2URL: http://www.vishay.com/docs/22161/h.pdf
footprint CAPRD7.5-9X3 (Capacitor, Ceramic, Thru-Hole, Disc; Body 9 x 3 mm (LxW max) Pin Spacing 7.5 mm (typ))
simulation model CAP (Capacitor)
signal-integrity model Cap
pins: 1, 2

## HBZ151KBBCF0K
designator C?
Ceramic High Voltage Disc Capacitor, Class 2: 150pF 2kV K 2000; Note: See Datasheet for other lead types & tolerances; Published: 17-Dec-2003; DatasheetDocument: 11-Dec-2001; PackageDocument: 2-Aug-2001; PackageReference: CAPRD7.5-7X3; Publisher: Altium Limited; ComponentLink1Description: Manufacturer Link; ComponentLink1URL: http://www.vishay.com/; ComponentLink2Description: Datasheet; ComponentLink2URL: http://www.vishay.com/docs/22161/h.pdf; Value: 150pF
footprint CAPRD7.5-7X3 (Capacitor, Ceramic, Thru-Hole, Disc; Body 7 x 3 mm (LxW max) Pin Spacing 7.5 mm (typ))
simulation model CAP (Capacitor)
signal-integrity model Cap
pins: 1, 2

## HBZ151MBBCF0K
designator C?
Ceramic High Voltage Disc Capacitor, Class 2: 150pF 2kV K 2000; Note: See Datasheet for other lead types & tolerances; Published: 17-Dec-2003; DatasheetDocument: 11-Dec-2001; PackageDocument: 2-Aug-2001; PackageReference: CAPRD7.5-7X3; Publisher: Altium Limited; ComponentLink1Description: Manufacturer Link; ComponentLink1URL: http://www.vishay.com/; ComponentLink2Description: Datasheet; ComponentLink2URL: http://www.vishay.com/docs/22161/h.pdf; Value: 150pF
footprint CAPRD7.5-7X3 (Capacitor, Ceramic, Thru-Hole, Disc; Body 7 x 3 mm (LxW max) Pin Spacing 7.5 mm (typ))
simulation model CAP (Capacitor)
signal-integrity model Cap
pins: 1, 2

## HBZ152KBBCF0K
designator C?
Ceramic High Voltage Disc Capacitor, Class 2: 1500pF 2kV K 2000; Note: See Datasheet for other lead types & tolerances; Value: 1.5nF; Published: 17-Dec-2003; DatasheetDocument: 11-Dec-2001; PackageDocument: 2-Aug-2001; PackageReference: CAPRD7.5-11X3; Publisher: Altium Limited; ComponentLink1Description: Manufacturer Link; ComponentLink1URL: http://www.vishay.com/; ComponentLink2Description: Datasheet; ComponentLink2URL: http://www.vishay.com/docs/22161/h.pdf
footprint CAPRD7.5-11X3 (Capacitor, Ceramic, Thru-Hole, Disc; Body 11 x 3 mm (LxW max) Pin Spacing 7.5 mm (typ))
simulation model CAP (Capacitor)
signal-integrity model Cap
pins: 1, 2

## HBZ152MBBCF0K
designator C?
Ceramic High Voltage Disc Capacitor, Class 2: 1500pF 2kV K 2000; Note: See Datasheet for other lead types & tolerances; Value: 1.5nF; Published: 17-Dec-2003; DatasheetDocument: 11-Dec-2001; PackageDocument: 2-Aug-2001; PackageReference: CAPRD7.5-11X3; Publisher: Altium Limited; ComponentLink1Description: Manufacturer Link; ComponentLink1URL: http://www.vishay.com/; ComponentLink2Description: Datasheet; ComponentLink2URL: http://www.vishay.com/docs/22161/h.pdf
footprint CAPRD7.5-11X3 (Capacitor, Ceramic, Thru-Hole, Disc; Body 11 x 3 mm (LxW max) Pin Spacing 7.5 mm (typ))
simulation model CAP (Capacitor)
signal-integrity model Cap
pins: 1, 2

## HBZ221KBBCF0K
designator C?
Ceramic High Voltage Disc Capacitor, Class 2: 220pF 2kV K 2000; Note: See Datasheet for other lead types & tolerances; Published: 17-Dec-2003; DatasheetDocument: 11-Dec-2001; PackageDocument: 2-Aug-2001; PackageReference: CAPRD7.5-7X3; Publisher: Altium Limited; ComponentLink1Description: Manufacturer Link; ComponentLink1URL: http://www.vishay.com/; ComponentLink2Description: Datasheet; ComponentLink2URL: http://www.vishay.com/docs/22161/h.pdf; Value: 220pF
footprint CAPRD7.5-7X3 (Capacitor, Ceramic, Thru-Hole, Disc; Body 7 x 3 mm (LxW max) Pin Spacing 7.5 mm (typ))
simulation model CAP (Capacitor)
signal-integrity model Cap
pins: 1, 2

## HBZ221MBBCF0K
designator C?
Ceramic High Voltage Disc Capacitor, Class 2: 220pF 2kV K 2000; Note: See Datasheet for other lead types & tolerances; Published: 17-Dec-2003; DatasheetDocument: 11-Dec-2001; PackageDocument: 2-Aug-2001; PackageReference: CAPRD7.5-7X3; Publisher: Altium Limited; ComponentLink1Description: Manufacturer Link; ComponentLink1URL: http://www.vishay.com/; ComponentLink2Description: Datasheet; ComponentLink2URL: http://www.vishay.com/docs/22161/h.pdf; Value: 220pF
footprint CAPRD7.5-7X3 (Capacitor, Ceramic, Thru-Hole, Disc; Body 7 x 3 mm (LxW max) Pin Spacing 7.5 mm (typ))
simulation model CAP (Capacitor)
signal-integrity model Cap
pins: 1, 2

## HBZ222KBBCF0K
designator C?
Ceramic High Voltage Disc Capacitor, Class 2: 2200pF 2kV K 2000; Note: See Datasheet for other lead types & tolerances; Value: 2.2nF; Published: 17-Dec-2003; DatasheetDocument: 11-Dec-2001; PackageDocument: 2-Aug-2001; PackageReference: CAPRD7.5-13X3A; Publisher: Altium Limited; ComponentLink1Description: Manufacturer Link; ComponentLink1URL: http://www.vishay.com/; ComponentLink2Description: Datasheet; ComponentLink2URL: http://www.vishay.com/docs/22161/h.pdf
footprint CAPRD7.5-13X3A (Capacitor, Ceramic, Thru-Hole, Disc; Body 13 x 3 mm (LxW max) Pin Spacing 7.5 mm (typ))
simulation model CAP (Capacitor)
signal-integrity model Cap
pins: 1, 2

## HBZ222MBBCF0K
designator C?
Ceramic High Voltage Disc Capacitor, Class 2: 2200pF 2kV K 2000; Note: See Datasheet for other lead types & tolerances; Value: 2.2nF; Published: 17-Dec-2003; DatasheetDocument: 11-Dec-2001; PackageDocument: 2-Aug-2001; PackageReference: CAPRD7.5-13X3A; Publisher: Altium Limited; ComponentLink1Description: Manufacturer Link; ComponentLink1URL: http://www.vishay.com/; ComponentLink2Description: Datasheet; ComponentLink2URL: http://www.vishay.com/docs/22161/h.pdf
footprint CAPRD7.5-13X3A (Capacitor, Ceramic, Thru-Hole, Disc; Body 13 x 3 mm (LxW max) Pin Spacing 7.5 mm (typ))
simulation model CAP (Capacitor)
signal-integrity model Cap
pins: 1, 2

## HBZ331KBBCF0K
designator C?
Ceramic High Voltage Disc Capacitor, Class 2: 330pF 2kV K 2000; Note: See Datasheet for other lead types & tolerances; Published: 17-Dec-2003; DatasheetDocument: 11-Dec-2001; PackageDocument: 2-Aug-2001; PackageReference: CAPRD7.5-7X3; Publisher: Altium Limited; ComponentLink1Description: Manufacturer Link; ComponentLink1URL: http://www.vishay.com/; ComponentLink2Description: Datasheet; ComponentLink2URL: http://www.vishay.com/docs/22161/h.pdf; Value: 330pF
footprint CAPRD7.5-7X3 (Capacitor, Ceramic, Thru-Hole, Disc; Body 7 x 3 mm (LxW max) Pin Spacing 7.5 mm (typ))
simulation model CAP (Capacitor)
signal-integrity model Cap
pins: 1, 2

## HBZ331MBBCF0K
designator C?
Ceramic High Voltage Disc Capacitor, Class 2: 330pF 2kV K 2000; Note: See Datasheet for other lead types & tolerances; Published: 17-Dec-2003; DatasheetDocument: 11-Dec-2001; PackageDocument: 2-Aug-2001; PackageReference: CAPRD7.5-7X3; Publisher: Altium Limited; ComponentLink1Description: Manufacturer Link; ComponentLink1URL: http://www.vishay.com/; ComponentLink2Description: Datasheet; ComponentLink2URL: http://www.vishay.com/docs/22161/h.pdf; Value: 330pF
footprint CAPRD7.5-7X3 (Capacitor, Ceramic, Thru-Hole, Disc; Body 7 x 3 mm (LxW max) Pin Spacing 7.5 mm (typ))
simulation model CAP (Capacitor)
signal-integrity model Cap
pins: 1, 2

## HBZ332KBBCF0K
designator C?
Ceramic High Voltage Disc Capacitor, Class 2: 3300pF 2kV K 2000; Note: See Datasheet for other lead types & tolerances; Value: 3.3nF; Published: 17-Dec-2003; DatasheetDocument: 11-Dec-2001; PackageDocument: 2-Aug-2001; PackageReference: CAPRD7.5-15X3; Publisher: Altium Limited; ComponentLink1Description: Manufacturer Link; ComponentLink1URL: http://www.vishay.com/; ComponentLink2Description: Datasheet; ComponentLink2URL: http://www.vishay.com/docs/22161/h.pdf
footprint CAPRD7.5-15X3 (Capacitor, Ceramic, Thru-Hole, Disc; Body 15 x 3 mm (LxW max) Pin Spacing 7.5 mm (typ))
simulation model CAP (Capacitor)
signal-integrity model Cap
pins: 1, 2

## HBZ332MBBCF0K
designator C?
Ceramic High Voltage Disc Capacitor, Class 2: 3300pF 2kV K 2000; Note: See Datasheet for other lead types & tolerances; Value: 3.3nF; Published: 17-Dec-2003; DatasheetDocument: 11-Dec-2001; PackageDocument: 2-Aug-2001; PackageReference: CAPRD7.5-15X3; Publisher: Altium Limited; ComponentLink1Description: Manufacturer Link; ComponentLink1URL: http://www.vishay.com/; ComponentLink2Description: Datasheet; ComponentLink2URL: http://www.vishay.com/docs/22161/h.pdf
footprint CAPRD7.5-15X3 (Capacitor, Ceramic, Thru-Hole, Disc; Body 15 x 3 mm (LxW max) Pin Spacing 7.5 mm (typ))
simulation model CAP (Capacitor)
signal-integrity model Cap
pins: 1, 2

## HBZ471KBBCF0K
designator C?
Ceramic High Voltage Disc Capacitor, Class 2: 470pF 2kV K 2000; Note: See Datasheet for other lead types & tolerances; Published: 17-Dec-2003; DatasheetDocument: 11-Dec-2001; PackageDocument: 2-Aug-2001; PackageReference: CAPRD7.5-7X3; Publisher: Altium Limited; ComponentLink1Description: Manufacturer Link; ComponentLink1URL: http://www.vishay.com/; ComponentLink2Description: Datasheet; ComponentLink2URL: http://www.vishay.com/docs/22161/h.pdf; Value: 470pF
footprint CAPRD7.5-7X3 (Capacitor, Ceramic, Thru-Hole, Disc; Body 7 x 3 mm (LxW max) Pin Spacing 7.5 mm (typ))
simulation model CAP (Capacitor)
signal-integrity model Cap
pins: 1, 2

## HBZ471MBBCF0K
designator C?
Ceramic High Voltage Disc Capacitor, Class 2: 470pF 2kV K 2000; Note: See Datasheet for other lead types & tolerances; Published: 17-Dec-2003; DatasheetDocument: 11-Dec-2001; PackageDocument: 2-Aug-2001; PackageReference: CAPRD7.5-7X3; Publisher: Altium Limited; ComponentLink1Description: Manufacturer Link; ComponentLink1URL: http://www.vishay.com/; ComponentLink2Description: Datasheet; ComponentLink2URL: http://www.vishay.com/docs/22161/h.pdf; Value: 470pF
footprint CAPRD7.5-7X3 (Capacitor, Ceramic, Thru-Hole, Disc; Body 7 x 3 mm (LxW max) Pin Spacing 7.5 mm (typ))
simulation model CAP (Capacitor)
signal-integrity model Cap
pins: 1, 2

## HBZ472KBBCF0K
designator C?
Ceramic High Voltage Disc Capacitor, Class 2: 4700pF 2kV K 2000; Note: See Datasheet for other lead types & tolerances; Value: 4.7nF; Published: 17-Dec-2003; DatasheetDocument: 11-Dec-2001; PackageDocument: 2-Aug-2001; PackageReference: CAPRD7.5-17X3A; Publisher: Altium Limited; ComponentLink1Description: Manufacturer Link; ComponentLink1URL: http://www.vishay.com/; ComponentLink2Description: Datasheet; ComponentLink2URL: http://www.vishay.com/docs/22161/h.pdf
footprint CAPRD7.5-17X3A (Capacitor, Ceramic, Thru-Hole, Disc; Body 17 x 3 mm (LxW max) Pin Spacing 7.5 mm (typ))
simulation model CAP (Capacitor)
signal-integrity model Cap
pins: 1, 2

## HBZ472MBBCF0K
designator C?
Ceramic High Voltage Disc Capacitor, Class 2: 4700pF 2kV K 2000; Note: See Datasheet for other lead types & tolerances; Value: 4.7nF; Published: 17-Dec-2003; DatasheetDocument: 11-Dec-2001; PackageDocument: 2-Aug-2001; PackageReference: CAPRD7.5-17X3A; Publisher: Altium Limited; ComponentLink1Description: Manufacturer Link; ComponentLink1URL: http://www.vishay.com/; ComponentLink2Description: Datasheet; ComponentLink2URL: http://www.vishay.com/docs/22161/h.pdf
footprint CAPRD7.5-17X3A (Capacitor, Ceramic, Thru-Hole, Disc; Body 17 x 3 mm (LxW max) Pin Spacing 7.5 mm (typ))
simulation model CAP (Capacitor)
signal-integrity model Cap
pins: 1, 2

## HBZ560KBBCF0K
designator C?
Ceramic High Voltage Disc Capacitor, Class 2: 56pF 2kV K 2000; Note: See Datasheet for other lead types & tolerances; Published: 17-Dec-2003; DatasheetDocument: 11-Dec-2001; PackageDocument: 2-Aug-2001; PackageReference: CAPRD7.5-7X3; Publisher: Altium Limited; ComponentLink1Description: Manufacturer Link; ComponentLink1URL: http://www.vishay.com/; ComponentLink2Description: Datasheet; ComponentLink2URL: http://www.vishay.com/docs/22161/h.pdf; Value: 56pF
footprint CAPRD7.5-7X3 (Capacitor, Ceramic, Thru-Hole, Disc; Body 7 x 3 mm (LxW max) Pin Spacing 7.5 mm (typ))
simulation model CAP (Capacitor)
signal-integrity model Cap
pins: 1, 2

## HBZ560MBBCF0K
designator C?
Ceramic High Voltage Disc Capacitor, Class 2: 56pF 2kV K 2000; Note: See Datasheet for other lead types & tolerances; Published: 17-Dec-2003; DatasheetDocument: 11-Dec-2001; PackageDocument: 2-Aug-2001; PackageReference: CAPRD7.5-7X3; Publisher: Altium Limited; ComponentLink1Description: Manufacturer Link; ComponentLink1URL: http://www.vishay.com/; ComponentLink2Description: Datasheet; ComponentLink2URL: http://www.vishay.com/docs/22161/h.pdf; Value: 56pF
footprint CAPRD7.5-7X3 (Capacitor, Ceramic, Thru-Hole, Disc; Body 7 x 3 mm (LxW max) Pin Spacing 7.5 mm (typ))
simulation model CAP (Capacitor)
signal-integrity model Cap
pins: 1, 2

## HBZ680KBBCF0K
designator C?
Ceramic High Voltage Disc Capacitor, Class 2: 68pF 2kV K 2000; Note: See Datasheet for other lead types & tolerances; Published: 17-Dec-2003; DatasheetDocument: 11-Dec-2001; PackageDocument: 2-Aug-2001; PackageReference: CAPRD7.5-7X3; Publisher: Altium Limited; ComponentLink1Description: Manufacturer Link; ComponentLink1URL: http://www.vishay.com/; ComponentLink2Description: Datasheet; ComponentLink2URL: http://www.vishay.com/docs/22161/h.pdf; Value: 68pF
footprint CAPRD7.5-7X3 (Capacitor, Ceramic, Thru-Hole, Disc; Body 7 x 3 mm (LxW max) Pin Spacing 7.5 mm (typ))
simulation model CAP (Capacitor)
signal-integrity model Cap
pins: 1, 2

## HBZ680MBBCF0K
designator C?
Ceramic High Voltage Disc Capacitor, Class 2: 68pF 2kV K 2000; Note: See Datasheet for other lead types & tolerances; Published: 17-Dec-2003; DatasheetDocument: 11-Dec-2001; PackageDocument: 2-Aug-2001; PackageReference: CAPRD7.5-7X3; Publisher: Altium Limited; ComponentLink1Description: Manufacturer Link; ComponentLink1URL: http://www.vishay.com/; ComponentLink2Description: Datasheet; ComponentLink2URL: http://www.vishay.com/docs/22161/h.pdf; Value: 68pF
footprint CAPRD7.5-7X3 (Capacitor, Ceramic, Thru-Hole, Disc; Body 7 x 3 mm (LxW max) Pin Spacing 7.5 mm (typ))
simulation model CAP (Capacitor)
signal-integrity model Cap
pins: 1, 2